# EAGLE library part 2.2_TFT_LCD (library Aldar)
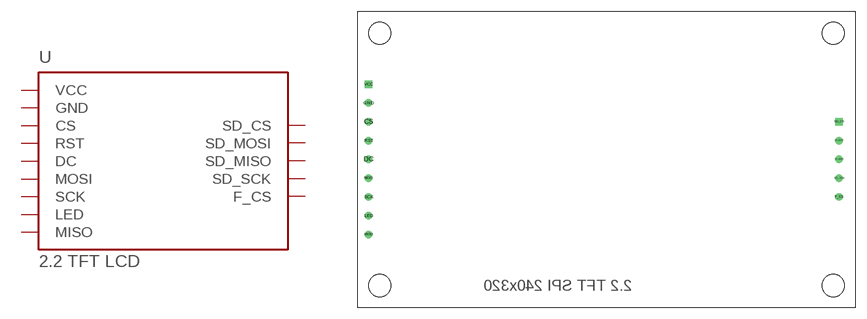
[diagram p2: symbol with the pads of 2.2_TFT_LCD; footprint 2.2_TFT_LCD]

Designator prefix -

## 2.2_TFT_LCD  [2.2_TFT_LCD]
CS  CS
DC  DC
F_CS  F_CS
GND  GND  pwr
LED  LED
MISO  MISO
MOSI  MOSI
RST  RST
SCK  SCK
SD_CS  SD_CS
SD_MISO  SD_MISO
SD_MOSI  SD_MOSI
SD_SCK  SD_SCK
VCC  VCC  pwr

## Footprint 2.2_TFT_LCD (pad centres in mm)
drill 0.5: CS 0,-5.08; DC 0,-10.16; F_CS 63.5,-15.24; GND 0,-2.54; LED 0,-17.78; MISO 0,-20.32; MOSI 0,-12.7; RST 0,-7.62; SCK 0,-15.24; SD_MISO 63.5,-10.16; SD_MOSI 63.5,-7.62; SD_SCK 63.5,-12.7
drill 0.5 square: SD_CS 63.5,-5.08; VCC 0,0